# Altium footprint library Andy_Parts.PcbLib: 121 footprints (part 1 of 8)
Each footprint in its own frame and in the unit in brackets; x right, y up, seen from the top. Pads: shape width x height; smd on the part's side, far side on the other; paste and mask are expansions set on the pad; w line width, h text height; cw(c..) or ccw(c..) is an arc to the next point about the centre after c.
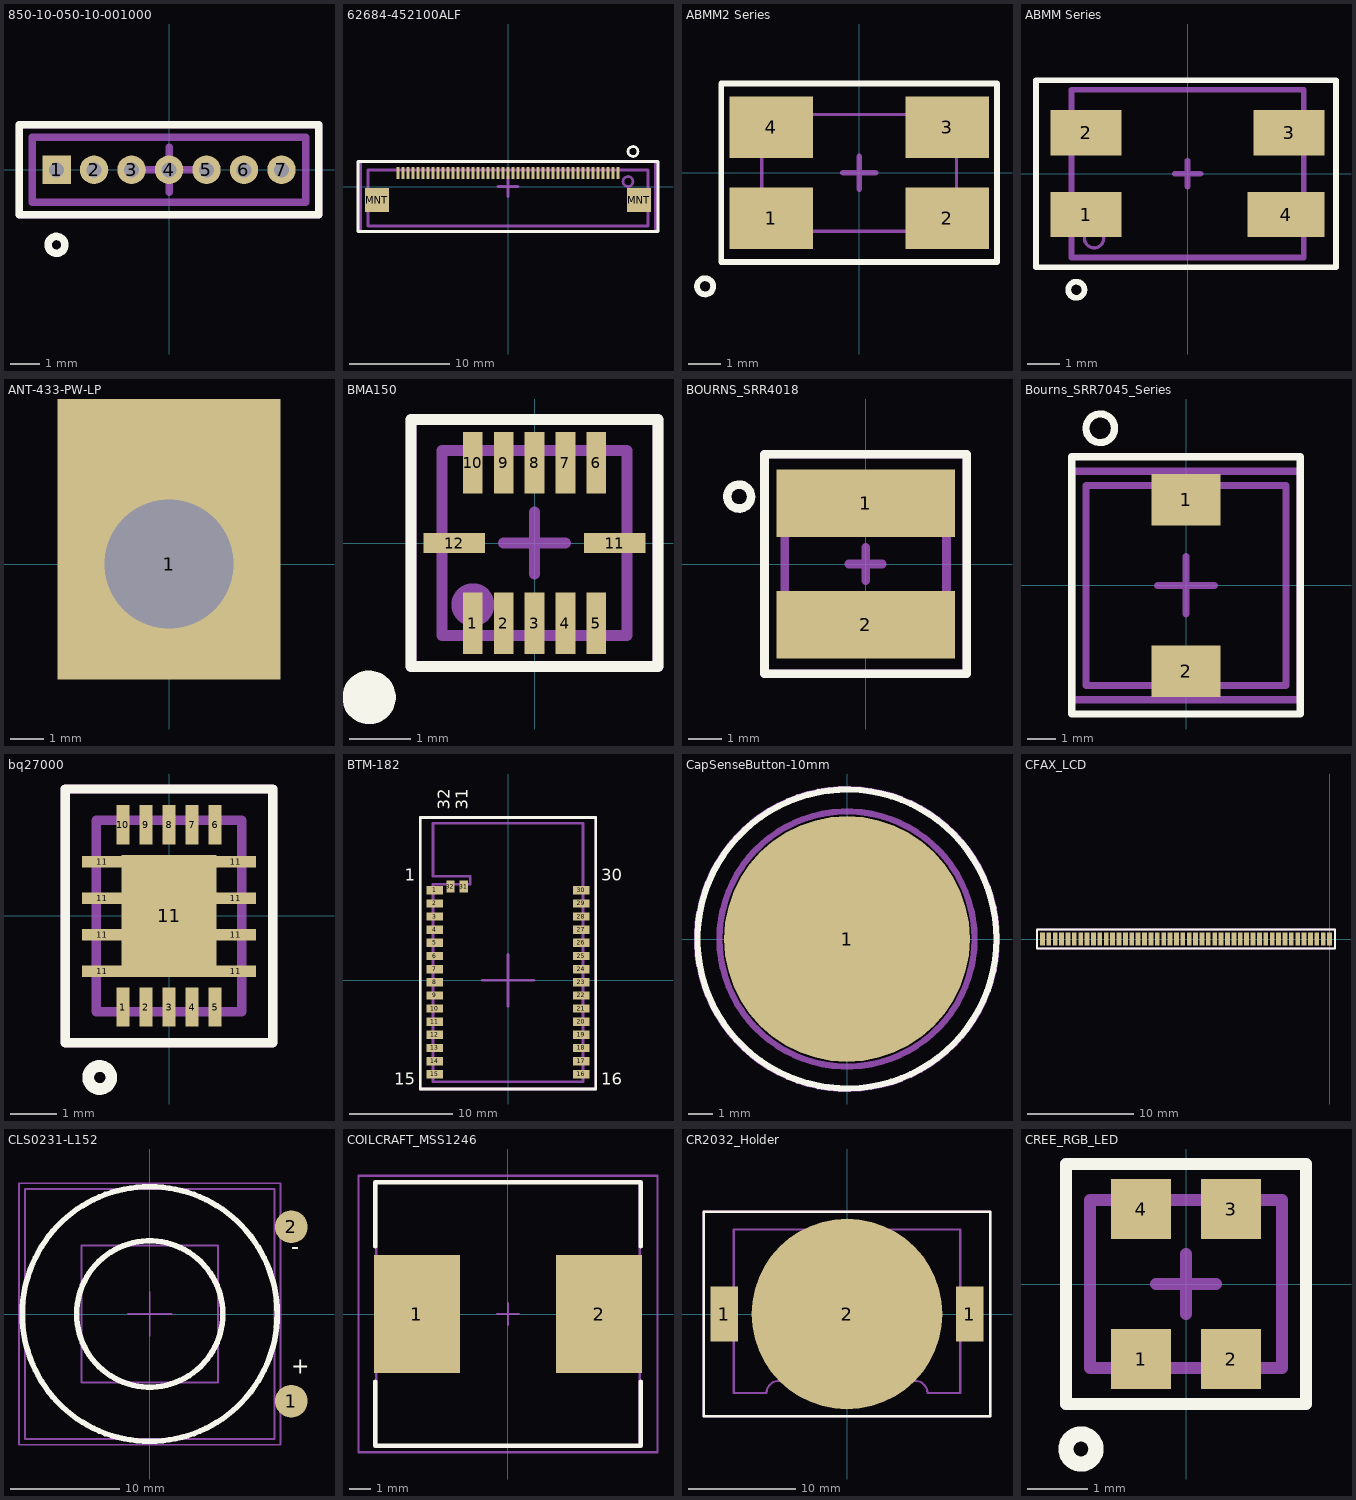
[diagram p0: the footprints below, top view; thin cyan lines are the x and y axes]

## 850-10-050-10-001000 [mil] "CONN HEADER .050\" 50POS PCB GOLD"
height 319
pads (7):
  rect 38x38 hole 20: 1(-150,0)
  round 38 hole 20: 2(-100,0) 3(-50,0) 4(0,0) 5(50,0) 6(100,0) 7(150,0)
Top Overlay:
  circle w10: c-150,-100 r11.18
  lines w10: -200,-60 -200,50 -200,60 200,60 200,-60 -200,-60
Mechanical 1:
  text ".Designator" at -35,-10 h50
Mechanical 13:
  lines w10: -182.5,-43.5 -182.5,43.5 182.5,43.5 182.5,-43.5 -182.5,-43.5
Mechanical 15:
  lines w10: -30,0 30,0 ; 0,-30 0,30 ; -200,-60 200,-60 200,60 -200,60 -200,50 -200,-60
3D body: height 87, standoff 0, extent -182.5,-43.5 182.5,43.5
3D body: height 205, standoff -114, extent 142,-7.98 157.94,7.98
3D body: height 205, standoff -114, extent 92,-7.98 107.94,7.98
3D body: height 205, standoff -114, extent 42,-7.98 57.94,7.98
3D body: height 205, standoff -114, extent -8,-7.98 7.94,7.98
3D body: height 205, standoff -114, extent -58,-7.98 -42.06,7.98
3D body: height 205, standoff -114, extent -108,-7.98 -92.06,7.98
3D body: height 205, standoff -114, extent -158,-7.98 -142.06,7.98

## 62684-452100ALF [mm] "FCI 45 pin 0.5mm pitch FPC connector"
pads (47):
  rect 0.3x1.2 smd: 1(11,1.35) 2(10.5,1.35) 3(10,1.35) 4(9.5,1.35) 5(9,1.35) 6(8.5,1.35) 7(8,1.35) 8(7.5,1.35) 9(7,1.35) 10(6.5,1.35) 11(6,1.35) 12(5.5,1.35) 13(5,1.35) 14(4.5,1.35) 15(4,1.35) 16(3.5,1.35) 17(3,1.35) 18(2.5,1.35) 19(2,1.35) 20(1.5,1.35) 21(1,1.35) 22(0.5,1.35) 23(0,1.35) 24(-0.5,1.35) 25(-1,1.35) 26(-1.5,1.35) 27(-2,1.35) 28(-2.5,1.35) 29(-3,1.35) 30(-3.5,1.35) 31(-4,1.35) 32(-4.5,1.35) 33(-5,1.35) 34(-5.5,1.35) 35(-6,1.35) 36(-6.5,1.35) 37(-7,1.35) 38(-7.5,1.35) 39(-8,1.35) 40(-8.5,1.35) 41(-9,1.35) 42(-9.5,1.35) 43(-10,1.35) 44(-10.5,1.35) 45(-11,1.35)
  rect 2.4x2.4 smd: MNT(-13.1,-1.35) MNT(13.1,-1.35)
Top Overlay:
  circle w0.254: c12.5,3.5 r0.5
  lines w0.254: -15,-4.5 -15,2.5 15,2.5 15,-4.5 -15,-4.5
Mechanical 1:
  text ".Designator" at -5.5,-2.5 h1.5
Mechanical 13:
  circle w0.254: c12,0.5 r0.5
  lines w0.254: -14,-3.95 14,-3.95 14,1.65 -14,1.65 -14,-3.95
Mechanical 15:
  lines w0.254: -1,0 0,0 ; 0,-1 0,0 ; 0,1 0,0 ; 1,0 0,0 ; -14.75,-4.5 -14.75,2.5 14.75,2.5 14.75,-4.5 -14.75,-4.5
3D body: height 2, standoff -0.05, extent -14,-3.95 14,1.65

## ABMM2 Series [mm] "Abracon ABMM2 series crystals"
height 1.2
pads (4):
  rect 2.575x1.9 smd: 1(-2.712,-1.4) 2(2.713,-1.4) 3(2.713,1.4) 4(-2.712,1.4)
Top Overlay:
  circle w0.178: c-4.75,-3.5 r0.25
  lines w0.178: -4.25,-2.75 4.25,-2.75 4.25,2.75 -4.25,2.75 -4.25,-2.75
Mechanical 1:
  text ".Designator" at -1,-0.5 h2.54
Mechanical 13:
  circle w0.1: c-2.2,-1 r0.3
  lines w0.1: -3,-1.8 -3,1.8 3,1.8 3,-1.8 -3,-1.8
Mechanical 15:
  lines w0.1: -4.25,-2.75 -4.25,2.75 4.25,2.75 4.25,-2.75 -4.25,-2.75
  lines w0.178: -0.5,0 0.5,0 ; 0,-0.5 0,0.5
3D body: height 1.2, standoff 0, extent -3,-1.8 3,1.8

## ABMM Series [mm] "Abracon ABMM series crystals"
height 1.3
pads (4):
  rect 2.2x1.4 smd: 1(-3.15,-1.27) 2(-3.15,1.27) 3(3.15,1.27)
  rect 2.4x1.4 smd: 4(3.05,-1.27)
Top Overlay:
  circle w0.178: c-3.45,-3.6 r0.25
  lines w0.178: -4.7,-2.9 4.6,-2.9 4.6,2.9 -4.7,2.9 -4.7,-2.9
Mechanical 1:
  text ".Designator" at -0.9,-0.4 h2.54
Mechanical 13:
  circle w0.1: c-2.9,-2 r0.3
  lines w0.178: -3.6,-2.6 3.6,-2.6 3.6,2.6 -3.6,2.6 -3.6,-2.6
Mechanical 15:
  lines w0.1: -4.7,-2.9 -4.7,2.9 4.6,2.9 4.6,-2.9 -4.7,-2.9
  lines w0.178: -0.4,0 0.4,0 ; 0,-0.4 0,0.4
3D body: height 1.3, standoff 0, extent -3.6,-2.6 3.6,2.6

## ANT-433-PW-LP [mil] "433MHz antenna footprint"
pads (1):
  rect 260x350 hole 150 copper offset 0,40: 1(0,0)

## BMA150 [mm]
height 0.75
pads (12):
  rect 0.32x1 smd: 1(-1,-1.3) 2(-0.5,-1.3) 3(0,-1.3) 4(0.5,-1.3) 5(1,-1.3) 6(1,1.3) 7(0.5,1.3) 8(0,1.3) 9(-0.5,1.3) 10(-1,1.3)
  rect 1x0.32 smd: 11(1.3,0) 12(-1.3,0)
Top Overlay:
  circle w0.508: c-2.68,-2.5 r0.18
  lines w0.178: -2,-2 -2,2 2,2 2,-2 -2,-2
Mechanical 1:
  text ".Designator" at -0.5,0 h1
Mechanical 13:
  circle w0.508: c-1,-1 r0.094
  lines w0.178: -1.5,-1.5 1.5,-1.5 1.5,1.5 -1.5,1.5 -1.5,-1.5
Mechanical 15:
  lines w0.178: -0.5,0 0.5,0 ; 0,-0.5 0,0.5 ; -2,-2 2,-2 2,2 -2,2 -2,-2
3D body: height 0.75, standoff 0, extent -1.5,-1.5 1.5,1.5

## BOURNS_SRR4018 [mm] "Bourns SRR4018 series inductor footprint"
height 1.8
pads (2):
  rect 5.3x2 smd: 1(0,1.8) 2(0,-1.8)
Top Overlay:
  circle w0.254: c-3.75,2 r0.354
  lines w0.254: -3,-3.25 3,-3.25 3,3.25 -3,3.25 -3,-3.25
Mechanical 1:
  text ".Designator" at -1,-0.5 h2.03
Mechanical 13:
  lines w0.254: -2.4,-2.4 -2.4,2.4 2.4,2.4 2.4,-2.4 -2.4,-2.4
Mechanical 15:
  lines w0.254: -0.5,0 0.5,0 ; 0,-0.5 0,0.5 ; -3,-3.25 -3,3.25 3,3.25 3,-3.25 -3,-3.25
3D body: height 1.8, standoff 0, extent -2.4,-2.4 2.4,2.4

## Bourns_SRR7045_Series [mm] "Bourns SRR7045 series inductors"
height 4.5
pads (2):
  rect 2.4x1.8 smd: 1(0,3) 2(0,-3)
Top Overlay:
  circle w0.254: c-3,5.5 r0.5
  lines w0.254: -4,-4.5 4,-4.5 4,4.5 -4,4.5 -4,4 -4,-4.5
Mechanical 1:
  text ".Designator" at -2.5,-0.5 h1.5
Mechanical 13:
  lines w0.254: -3.5,-3.5 -3.5,3.5 3.5,3.5 3.5,-3.5 -3.5,-3.5
Mechanical 15:
  lines w0.254: -1,0 1,0 ; 0,-1 0,1 ; -4,-4 -4,4 4,4 4,-4 -4,-4
3D body: height 4.5, standoff 0, extent -3.5,-3.5 3.5,3.5

## bq27000 [mm] "Footprint for BQ27000"
height 1
pads (19):
  rect 0.28x0.85 smd: 1(-1,-1.975) 2(-0.5,-1.975) 3(0,-1.975) 4(0.5,-1.975) 5(1,-1.975) 6(1,1.975) 7(0.5,1.975) 8(0,1.975) 9(-0.5,1.975) 10(-1,1.975)
  rect 0.875x0.25 smd: 11(-1.45,-1.2) 11(-1.45,-0.409) 11(-1.45,0.38) 11(-1.45,1.175) 11(1.45,-1.2) 11(1.45,-0.409) 11(1.45,0.38) 11(1.45,1.175)
  rect 2.05x2.65 smd: 11(0,0)
Top Overlay:
  circle w0.254: c-1.5,-3.5 r0.25
  lines w0.2: -2.25,-2.75 0.5,-2.75 2.25,-2.75 2.25,0.25 2.25,2.75 0,2.75 -2.25,2.75 -2.25,-2.25 -2.25,-2.75
Mechanical 1:
  text ".Designator" at -0.75,-0.25 h1
Mechanical 13:
  lines w0.2: -1.575,-2.075 1.575,-2.075 1.575,2.075 -1.575,2.075 -1.575,-2.075
Mechanical 15:
  lines w0.2: -0.5,0 0.5,0 ; 0,-0.5 0,0.5 ; -2.25,-2.75 -2.25,-2.25 -2.25,2.75 0,2.75 2.25,2.75 2.25,0.25 2.25,-2.75 0.5,-2.75 -2.25,-2.75
3D body: height 1, standoff 0, extent -1.575,-2.075 1.575,2.075

## BTM-182 [mm] "Rayson BTM-182 Bluetooth serial module footprint"
height 2.2
pads (32):
  rect 1.6x0.8 smd: 1(-7.06,8.705) 2(-7.06,7.435) 3(-7.06,6.165) 4(-7.06,4.895) 5(-7.06,3.625) 6(-7.06,2.355) 7(-7.06,1.085) 8(-7.06,-0.185) 9(-7.06,-1.455) 10(-7.06,-2.725) 11(-7.06,-3.995) 12(-7.06,-5.265) 13(-7.06,-6.535) 14(-7.06,-7.805) 15(-7.06,-9.075) 16(7.06,-9.075) 17(7.06,-7.805) 18(7.06,-6.535) 19(7.06,-5.265) 20(7.06,-3.995) 21(7.06,-2.725) 22(7.06,-1.455) 23(7.06,-0.185) 24(7.06,1.085) 25(7.06,2.355) 26(7.06,3.625) 27(7.06,4.895) 28(7.06,6.165) 29(7.06,7.435) 30(7.06,8.705)
  rect 0.8x1.2 smd: 31(-4.29,9.075) 32(-5.56,9.075)
Top Overlay:
  lines w0.254: -8.5,-10.5 -8.5,15.75 8.5,15.75 8.5,-10.5 -8.5,-10.5
  text "1" at -10,9.25 h2
  text "15" at -11,-10.5 h2
  text "16" at 9,-10.5 h2
  text "30" at 9,9.25 h2
  text "31" at -3.5,16.5 h2
  text "32" at -5.25,16.5 h2
Mechanical 1:
  text ".Designator" at -2.4,-0.5 h3.17
Mechanical 13:
  circle w0.254: c-6.7,8.7 r0.224
  lines w0.254: -7.25,-9.805 7.25,-9.805 7.25,15.195 -7.25,15.195 -7.25,10.065 -3.65,10.065 -3.65,9.305 -7.25,9.305 -7.25,-9.805
Mechanical 15:
  lines w0.254: -2.5,0 0,0 ; 0,-2.5 0,0 ; 0,2.5 0,0 ; 2.5,0 0,0 ; -8.5,-10.5 8.5,-10.5 8.5,15.75 -8.5,15.75 -8.5,-10.5
3D body: height 1.7, standoff 0, extent -7.49,-9.425 -6.39,-8.725
3D body: height 1.7, standoff 1.6, extent -4.96,9.055 5.04,14.855
3D body: height 1.6, standoff 0, extent -7.25,-9.805 7.25,15.195
3D body: height 1.7, standoff 0, extent -7.49,-8.155 -6.39,-7.455
3D body: height 1.7, standoff 0, extent -7.49,-6.885 -6.39,-6.185
3D body: height 1.7, standoff 0, extent -7.49,-5.615 -6.39,-4.915
3D body: height 1.7, standoff 0, extent -7.49,-4.345 -6.39,-3.645
3D body: height 1.7, standoff 0, extent -7.49,-3.075 -6.39,-2.375
3D body: height 1.7, standoff 0, extent -7.49,-1.805 -6.39,-1.105
3D body: height 1.7, standoff 0, extent -7.49,-0.535 -6.39,0.165
3D body: height 1.7, standoff 0, extent -7.49,0.735 -6.39,1.435
3D body: height 1.7, standoff 0, extent -7.49,2.005 -6.39,2.705
3D body: height 1.7, standoff 0, extent -7.49,3.275 -6.39,3.975
3D body: height 1.7, standoff 0, extent -7.49,4.545 -6.39,5.245
3D body: height 1.7, standoff 0, extent -7.49,5.815 -6.39,6.515
3D body: height 1.7, standoff 0, extent -7.49,7.085 -6.39,7.785
3D body: height 1.7, standoff 0, extent -7.49,8.355 -6.39,9.055
3D body: height 1.7, standoff 0, extent 6.39,-9.425 7.49,-8.725
3D body: height 1.7, standoff 0, extent 6.39,-8.155 7.49,-7.455
3D body: height 1.7, standoff 0, extent 6.39,-6.885 7.49,-6.185
3D body: height 1.7, standoff 0, extent 6.39,-5.615 7.49,-4.915
3D body: height 1.7, standoff 0, extent 6.39,-4.345 7.49,-3.645
3D body: height 1.7, standoff 0, extent 6.39,-3.075 7.49,-2.375
3D body: height 1.7, standoff 0, extent 6.39,-1.805 7.49,-1.105
3D body: height 1.7, standoff 0, extent 6.39,-0.535 7.49,0.165
3D body: height 1.7, standoff 0, extent 6.39,0.735 7.49,1.435
3D body: height 1.7, standoff 0, extent 6.39,2.005 7.49,2.705
3D body: height 1.7, standoff 0, extent 6.39,3.275 7.49,3.975
3D body: height 1.7, standoff 0, extent 6.39,4.545 7.49,5.245
3D body: height 1.7, standoff 0, extent 6.39,5.815 7.49,6.515
3D body: height 1.7, standoff 0, extent 6.39,7.085 7.49,7.785
3D body: height 1.7, standoff 0, extent 6.39,8.355 7.49,9.055
3D body: height 1.7, standoff 0, extent -5.91,8.605 -5.21,9.505
3D body: height 1.7, standoff 0, extent -4.64,8.605 -3.94,9.505
3D body: height 2, standoff 1.6, extent -4.76,2.255 -3.26,6.155
3D body: height 2.2, standoff 1.6, extent -1.71,-1.985 5.59,5.015
3D body: height 2.2, standoff 1.6, extent -1.51,-8.985 5.39,-3.985

## CapSenseButton-10mm [mm] "CapSense Button, 10mm diameter"
pads (1):
  round 10 smd mask-20: 1(0,0)
Top Overlay:
  circle w0.254: c0,0 r6.083
Mechanical 13:
  circle w0.254: c0,0 r5.189
Mechanical 15:
  circle w0.254: c0,0 r6.103

## CFAX_LCD [mm] "Crystal Fontz 128 x 64 graphic LCD solder down area"
height 1
pads (46):
  rect 0.45x1.2 smd: 1(0,0) 2(-0.6,0) 3(-1.2,0) 4(-1.8,0) 5(-2.4,0) 6(-3,0) 7(-3.6,0) 8(-4.2,0) 9(-4.8,0) 10(-5.4,0) 11(-6,0) 12(-6.6,0) 13(-7.2,0) 14(-7.8,0) 15(-8.4,0) 16(-9,0) 17(-9.6,0) 18(-10.2,0) 19(-10.8,0) 20(-11.4,0) 21(-12,0) 22(-12.6,0) 23(-13.2,0) 24(-13.8,0) 25(-14.4,0) 26(-15,0) 27(-15.6,0) 28(-16.2,0) 29(-16.8,0) 30(-17.4,0) 31(-18,0) 32(-18.6,0) 33(-19.2,0) 34(-19.8,0) 35(-20.4,0) 36(-21,0) 37(-21.6,0) 38(-22.2,0) 39(-22.8,0) 40(-23.4,0) 41(-24,0) 42(-24.6,0) 43(-25.2,0) 44(-25.8,0) 45(-26.4,0) 46(-27,0)
Top Overlay:
  lines w0.203: -27.5,-0.9 -0.4,-0.9 0.5,-0.9 0.5,-0.7 0.5,0.9 -27.5,0.9 -27.5,0.6 -27.5,-0.9
Mechanical 1:
  text ".Designator" at -15.059,-0.154 h0.64
Mechanical 15:
  lines w0.203: -27.5,-0.9 -27.5,0.6 -27.5,0.9 0.5,0.9 0.5,-0.7 0.5,-0.9 -0.4,-0.9 -27.5,-0.9

## CLS0231-L152 [mm] "SPEAKER 8OHMS 1.0W 23MM 6\" LEADS"
height 5.7
pads (2):
  round 3 smd: 1(13,-8) 2(13,8)
Top Overlay:
  circle w0.508: c0,0 r11.7
  circle w0.508: c0,0 r6.708
  text "+" at 13,-6 h2.54
  text "-" at 13,5 h2.54
Mechanical 1:
  text ".Designator" at -3,-1 h2.54
Mechanical 13:
  lines w0.178: -11.455,-11.475 11.455,-11.475 11.455,11.48 -11.455,11.48 -11.455,-11.475 ; -6.275,-6.288 6.275,-6.288 6.275,6.288 -6.275,6.288 -6.275,-6.288
Mechanical 15:
  lines w0.178: -2,0 2,0 ; 0,-2 0,2 ; -12,-12 -12,12 12,12 12,-12 -12,-12
3D body: height 2.25, standoff 0, extent -6.275,-6.288 6.275,6.288
3D body: height 5.7, standoff 2.25, extent -11.455,-11.475 11.455,11.48

## COILCRAFT_MSS1246 [mm] "Precision Wire Wound Inductor, 2-Leads, Body 12.0x12.0mm, IPC Medium Density"
height 4.8
pads (2):
  rect 4x5.5 smd: 1(-4.25,0) 2(4.25,0)
Top Overlay:
  lines w0.2: -6.2,-3.15 -6.2,-6.15 6.2,-6.15 6.2,-3.15 ; -6.2,3.15 -6.2,6.15 6.2,6.15 6.2,3.15
Mechanical 1:
  text ".Designator" at -1.5,-0.65 h2.54
Mechanical 13:
  lines w0.1: -6.15,-6.15 -6.15,6.15 6.15,6.15 6.15,-6.15 -6.15,-6.15
Mechanical 15:
  lines w0.1: -0.5,0 0.5,0 ; 0,-0.5 0,0.5 ; -6.975,-6.45 -6.975,6.45 6.975,6.45 6.975,-6.45 -6.975,-6.45
3D body: height 4.8, standoff 0, extent -6.15,-6.15 6.15,6.15

## CR2032_Holder [mm] "CR2032 Lithium Battery Holder"
height 3.048
pads (3):
  rect 2.54x5.08 smd: 1(-11.43,0) 1(11.43,0)
  round 17.78 smd: 2(0,0)
Top Overlay:
  lines w0.203: -13.335,-9.525 13.335,-9.525 13.335,9.525 -13.335,9.525 -13.335,-9.525
Mechanical 1:
  text ".Designator" at -2.159,-0.254 h0.64
Mechanical 13:
  lines w0.203: -10.541,-7.366 -10.541,7.874 10.541,7.874 10.541,-7.366 7.493,-7.366 ccw(c6.35,-7.366) 6.35,-6.223 -6.35,-6.223 ccw(c-6.35,-7.366) -7.493,-7.366 -10.541,-7.366
Mechanical 15:
  lines w0.203: -0.635,0 0,0 ; 0,-0.635 0,0 ; 0,0.635 0,0 ; 0.635,0 0,0 ; -13.335,-9.525 -13.335,9.525 13.335,9.525 13.335,-9.525 -13.335,-9.525
3D body: height 3.05, standoff 0, extent -10.541,-7.366 10.541,7.874

## CREE_RGB_LED [mm] "Cree Surface Mount RGB LED"
height 1.9
pads (4):
  rect 1x1 smd: 1(-0.75,-1.25) 2(0.75,-1.25) 3(0.75,1.25) 4(-0.75,1.25)
Top Overlay:
  circle w0.254: c-1.75,-2.75 r0.25
  lines w0.2: -2,-2 -2,2 1.25,2 2,2 2,0.25 2,-2 -2,-2
Mechanical 1:
  text ".Designator" at -0.5,-0.25 h1
Mechanical 13:
  lines w0.2: -1.6,-1.4 1.6,-1.4 1.6,1.4 -1.6,1.4 -1.6,-1.4
Mechanical 15:
  lines w0.2: -0.5,0 0.5,0 ; 0,-0.5 0,0.5 ; -2,-2 2,-2 2,0.25 2,2 1.25,2 -2,2 -2,-2
3D body: height 1.9, standoff 0, extent 0.525,-1.4 1.6,1.4
3D body: height 1.9, standoff 0, extent -0.6,-1.4 0.525,1.4
3D body: height 1.9, standoff 0, extent -1.6,-1.4 -0.6,1.4